# Altium schematic symbol library DUAL_INV_6PIN.SchLib: 1 symbol
Pins are listed as number, name and electrical type; pins without a type are passive.

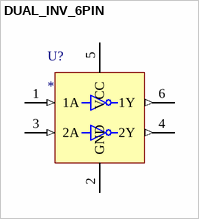
[diagram p0: symbol DUAL_INV_6PIN]

## DUAL_INV_6PIN
designator U?
Dual Inverter with Schmitt Trigger Inputs
pins: 1 1A (in), 2 GND (power), 3 2A (in), 4 2Y (out), 5 VCC (power), 6 1Y (out)